# Altium footprint library ip_phone.PcbLib: 69 footprints (part 5 of 5)
Each footprint in its own frame and in the unit in brackets; x right, y up, seen from the top. Pads: shape width x height; smd on the part's side, far side on the other; paste and mask are expansions set on the pad; w line width, h text height; cw(c..) or ccw(c..) is an arc to the next point about the centre after c.
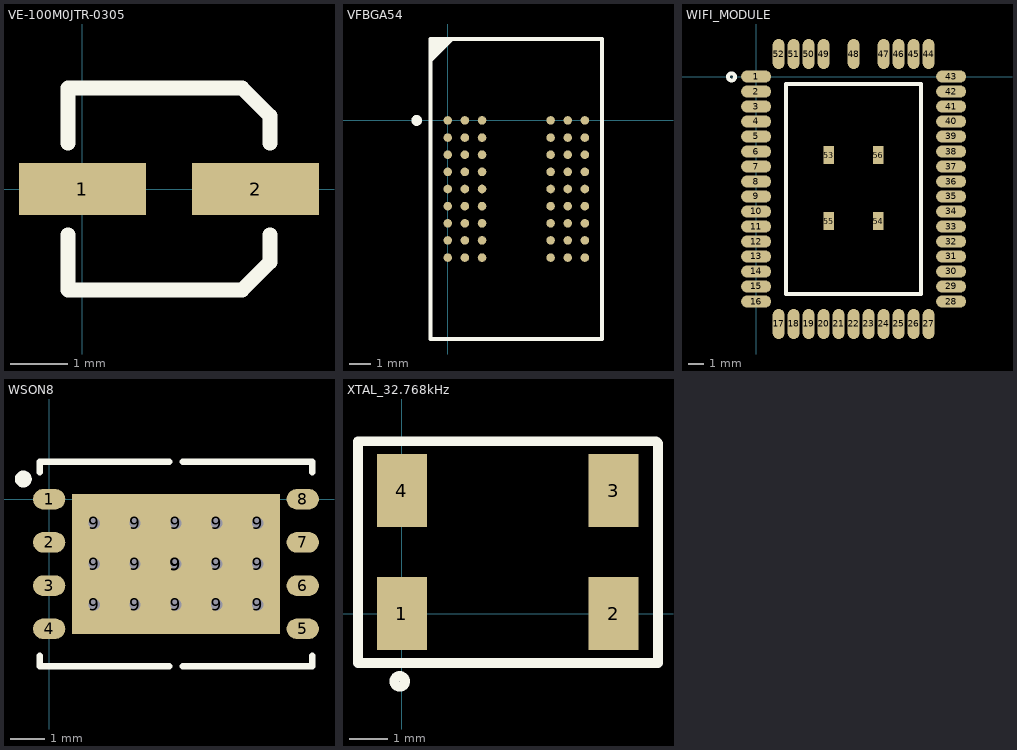
[diagram p4: the footprints below, top view; thin cyan lines are the x and y axes]

## VE-100M0JTR-0305 [mm]
pads (2):
  rect 2.2x0.9 smd: 1(0,0) 2(3,0)
Top Overlay:
  lines w0.254: -0.25,-0.79 -0.25,-1.75 2.77,-1.75 3.25,-1.27 3.25,-0.79 ; -0.25,0.79 -0.25,1.75 2.77,1.75 3.25,1.27 3.25,0.79

## VFBGA54 [mm]
height 0.65
pads (54):
  round 0.4 smd: A1(0,0) A2(0.8,0) A3(1.6,0) A7(4.8,0) A8(5.6,0) A9(6.4,0) B1(0,-0.8) B2(0.8,-0.8) B3(1.6,-0.8) B7(4.8,-0.8) B8(5.6,-0.8) B9(6.4,-0.8) C1(0,-1.6) C2(0.8,-1.6) C3(1.6,-1.6) C7(4.8,-1.6) C8(5.6,-1.6) C9(6.4,-1.6) D1(0,-2.4) D2(0.8,-2.4) D3(1.6,-2.4) D7(4.8,-2.4) D8(5.6,-2.4) D9(6.4,-2.4) E1(0,-3.2) E2(0.8,-3.2) E3(1.6,-3.2) E7(4.8,-3.2) E8(5.6,-3.2) E9(6.4,-3.2) F1(0,-4) F2(0.8,-4) F3(1.6,-4) F7(4.8,-4) F8(5.6,-4) F9(6.4,-4) G1(0,-4.8) G2(0.8,-4.8) G3(1.6,-4.8) G7(4.8,-4.8) G8(5.6,-4.8) G9(6.4,-4.8) H1(0,-5.6) H2(0.8,-5.6) H3(1.6,-5.6) H7(4.8,-5.6) H8(5.6,-5.6) H9(6.4,-5.6) J1(0,-6.4) J2(0.8,-6.4) J3(1.6,-6.4) J7(4.8,-6.4) J8(5.6,-6.4) J9(6.4,-6.4)
Top Overlay:
  circle w0.25: c-1.45,0 r0.125
  region: 0.2,3.8 -0.8,2.8 -0.8,3.8
  lines w0.2: -0.8,2.8 0.2,3.8 ; -0.8,-10.2 -0.8,3.8 7.2,3.8 7.2,-10.2 -0.8,-10.2
Mechanical 13:
  lines w0.1: -0.8,-10.2 -0.8,3.8 7.2,3.8 7.2,-10.2 -0.8,-10.2
3D body: height 0.65, standoff 0.1, extent -0.8,-10.2 7.2,3.8

## WIFI_MODULE [mm]
pads (56):
  oval 2x0.8 smd: 1(0,0) 2(0,-1) 3(0,-2) 4(0,-3) 5(0,-4) 6(0,-5) 7(0,-6) 8(0,-7) 9(0,-8) 10(0,-9) 11(0,-10) 12(0,-11) 13(0,-12) 14(0,-13) 15(0,-14) 16(0,-15) 28(13,-15) 29(13,-14) 30(13,-13) 31(13,-12) 32(13,-11) 33(13,-10) 34(13,-9) 35(13,-8) 36(13,-7) 37(13,-6) 38(13,-5) 39(13,-4) 40(13,-3) 41(13,-2) 42(13,-1) 43(13,0)
  oval 0.8x2 smd: 17(1.5,-16.5) 18(2.5,-16.5) 19(3.5,-16.5) 20(4.5,-16.5) 21(5.5,-16.5) 22(6.5,-16.5) 23(7.5,-16.5) 24(8.5,-16.5) 25(9.5,-16.5) 26(10.5,-16.5) 27(11.5,-16.5) 44(11.5,1.5) 45(10.5,1.5) 46(9.5,1.5) 47(8.5,1.5) 48(6.5,1.5) 49(4.5,1.5) 50(3.5,1.5) 51(2.5,1.5) 52(1.5,1.5)
  rect 0.7x1.2 smd: 53(4.849,-5.24) 54(8.153,-9.639) 55(4.849,-9.639) 56(8.153,-5.24)
Top Overlay:
  circle w0.254: c-1.641,-0.025 r0.239
  lines w0.254: 1.996,-14.49 1.996,-0.49 10.996,-0.49 10.996,-14.49 1.996,-14.49
3D body: height 1.79, standoff -0.03, extent 0,-16.46 13,1.54

## WSON8 [mm] "WSON, 8-Leads, Body 6,0x8,0mm (max), Pitch 1,27mm, IPC Medium Density"
height 0.8
pads (24):
  oval 0.95x0.6 smd: 1(0,0) 2(0,-1.27) 3(0,-2.54) 4(0,-3.81) 5(7.45,-3.81) 6(7.45,-2.54) 7(7.45,-1.27) 8(7.45,0)
  round 0.66 hole 0.33: 9(1.325,-3.105) 9(1.325,-1.905) 9(1.325,-0.705) 9(2.525,-3.105) 9(2.525,-1.905) 9(2.525,-0.705) 9(3.725,-3.105) 9(3.725,-1.905) 9(3.725,-0.705) 9(4.925,-3.105) 9(4.925,-1.905) 9(4.925,-0.705) 9(6.125,-3.105) 9(6.125,-1.905) 9(6.125,-0.705)
  rect 6.1x4.1 smd: 9(3.725,-1.905)
Top Overlay:
  circle w0.25: c-0.76,0.59 r0.125
  lines w0.2: -0.275,-4.605 -0.275,-4.905 3.525,-4.905 ; -0.275,0.795 -0.275,1.095 3.525,1.095 ; 3.925,-4.905 7.725,-4.905 7.725,-4.605 ; 3.925,1.095 7.725,1.095 7.725,0.795
3D body: height 0.8, standoff 0, extent -0.275,-4.905 7.725,1.095

## XTAL_32.768kHz [mm] "XTAL"
height 3.6
pads (4):
  rect 1.3x1.9 smd: 1(0,0) 2(5.5,0) 3(5.5,3.2) 4(0,3.2)
Top Overlay:
  circle w0.254: c-0.059,-1.76 r0.14
  lines w0.254: -1.143,-1.28 6.655,-1.28 6.655,4.43 6.604,4.481 -1.143,4.481 -1.143,-1.28